# EAGLE library part PIC18F1XX50 (library 1A-meinLib)
20-Pin USB Flash Microcontroller, 1.8..5.5V, 16K Flash, 8192 Word Programm, 768 Byte SRAM, 256 Byte EEPROM, 15 I/O, 10 Bit ADC ECCP, SPI, I2C, 2 Comarator, 1/3 Timer, USB
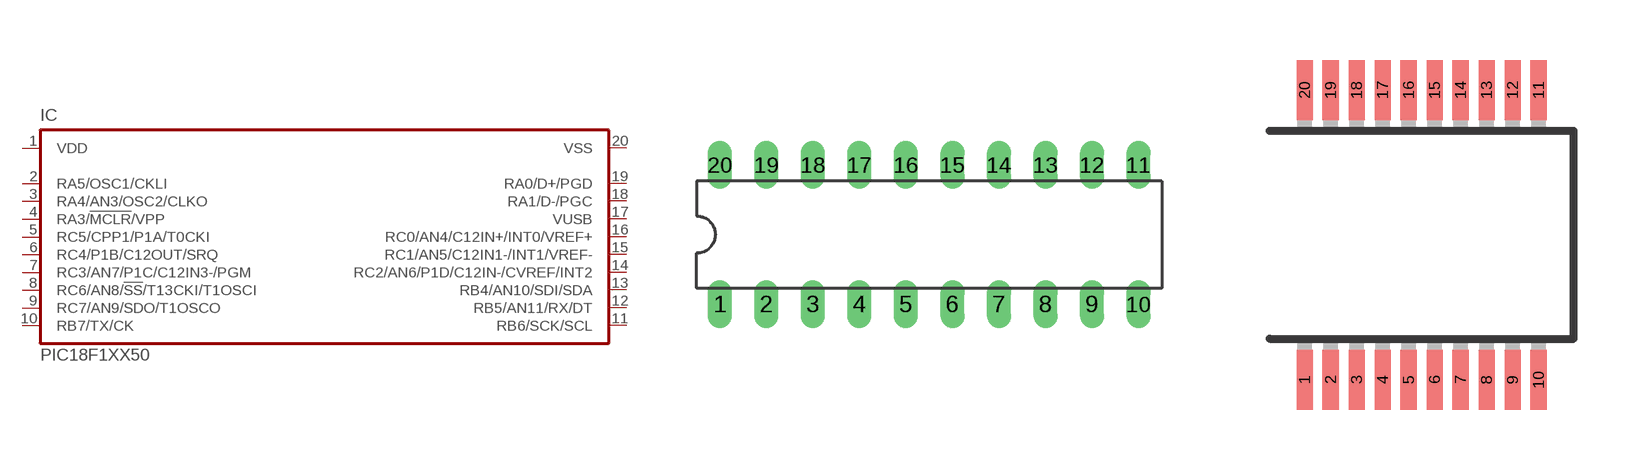
[diagram p376: symbol with the pads of DIL20; footprints DIL20, SSOP20]

Designator prefix IC

## PIC18F1XX50  [DIL20]
1  VDD  pwr
2  RA5/OSC1/CKLI  in
3  RA4/AN3/OSC2/CLKO
4  RA3/!MCLR!/VPP
5  RC5/CPP1/P1A/T0CKI
6  RC4/P1B/C12OUT/SRQ
7  RC3/AN7/P1C/C12IN3-/PGM
8  RC6/AN8/!SS!/T13CKI/T1OSCI
9  RC7/AN9/SDO/T1OSCO
10  RB7/TX/CK
11  RB6/SCK/SCL
12  RB5/AN11/RX/DT
13  RB4/AN10/SDI/SDA
14  RC2/AN6/P1D/C12IN-/CVREF/INT2
15  RC1/AN5/C12IN1-/INT1/VREF-
16  RC0/AN4/C12IN+/INT0/VREF+
17  VUSB
18  RA1/D-/PGC
19  RA0/D+/PGD
20  VSS  pwr

## PIC18F1XX50SSOP20  [SSOP20]
Pads as for DIL20

## PIC18F1XX50SIOC-20-W  [SOIC-20]
Pads as for DIL20

## Footprint DIL20 (pad centres in mm)
drill 0.813 long: 1 -10.16,-3.81; 2 -7.62,-3.81; 3 -5.08,-3.81; 4 -2.54,-3.81; 5 0,-3.81; 6 2.54,-3.81; 7 5.08,-3.81; 8 7.62,-3.81; 9 10.16,-3.81; 10 12.7,-3.81; 11 12.7,3.81; 12 10.16,3.81; 13 7.62,3.81; 14 5.08,3.81; 15 2.54,3.81; 16 0,3.81; 17 -2.54,3.81; 18 -5.08,3.81; 19 -7.62,3.81; 20 -10.16,3.81

## Footprint SSOP20 (pad centres in mm)
Shrink Small Outline Package package type SS
smd 0.4 x 1.5: 1 -2.925,-3.625; 2 -2.275,-3.625; 3 -1.625,-3.625; 4 -0.975,-3.625; 5 -0.325,-3.625; 6 0.325,-3.625; 7 0.975,-3.625; 8 1.625,-3.625; 9 2.275,-3.625; 10 2.925,-3.625; 11 2.925,3.625; 12 2.275,3.625; 13 1.625,3.625; 14 0.975,3.625; 15 0.325,3.625; 16 -0.325,3.625; 17 -0.975,3.625; 18 -1.625,3.625; 19 -2.275,3.625; 20 -2.925,3.625

## Footprint SOIC-20 (pad centres in mm)
20-Lead Plastic Small Outline (SO) - Wide, 7.5mm Bofy [SOIC]
smd 0.61 x 1.524: 1 -5.71,-4.534; 2 -4.44,-4.534; 3 -3.17,-4.534; 4 -1.9,-4.534; 5 -0.63,-4.534; 6 0.64,-4.534; 7 1.91,-4.534; 8 3.18,-4.534; 9 4.45,-4.534; 10 5.72,-4.534; 11 5.72,4.529; 12 4.45,4.529; 13 3.18,4.529; 14 1.91,4.529; 15 0.64,4.529; 16 -0.63,4.529; 17 -1.9,4.529; 18 -3.17,4.529; 19 -4.44,4.529; 20 -5.71,4.529